# Altium integrated library Linear Technology PMIC-Switching Reg LTC1174-LTC3901.IntLib: 2647 symbols (part 152 of 310)
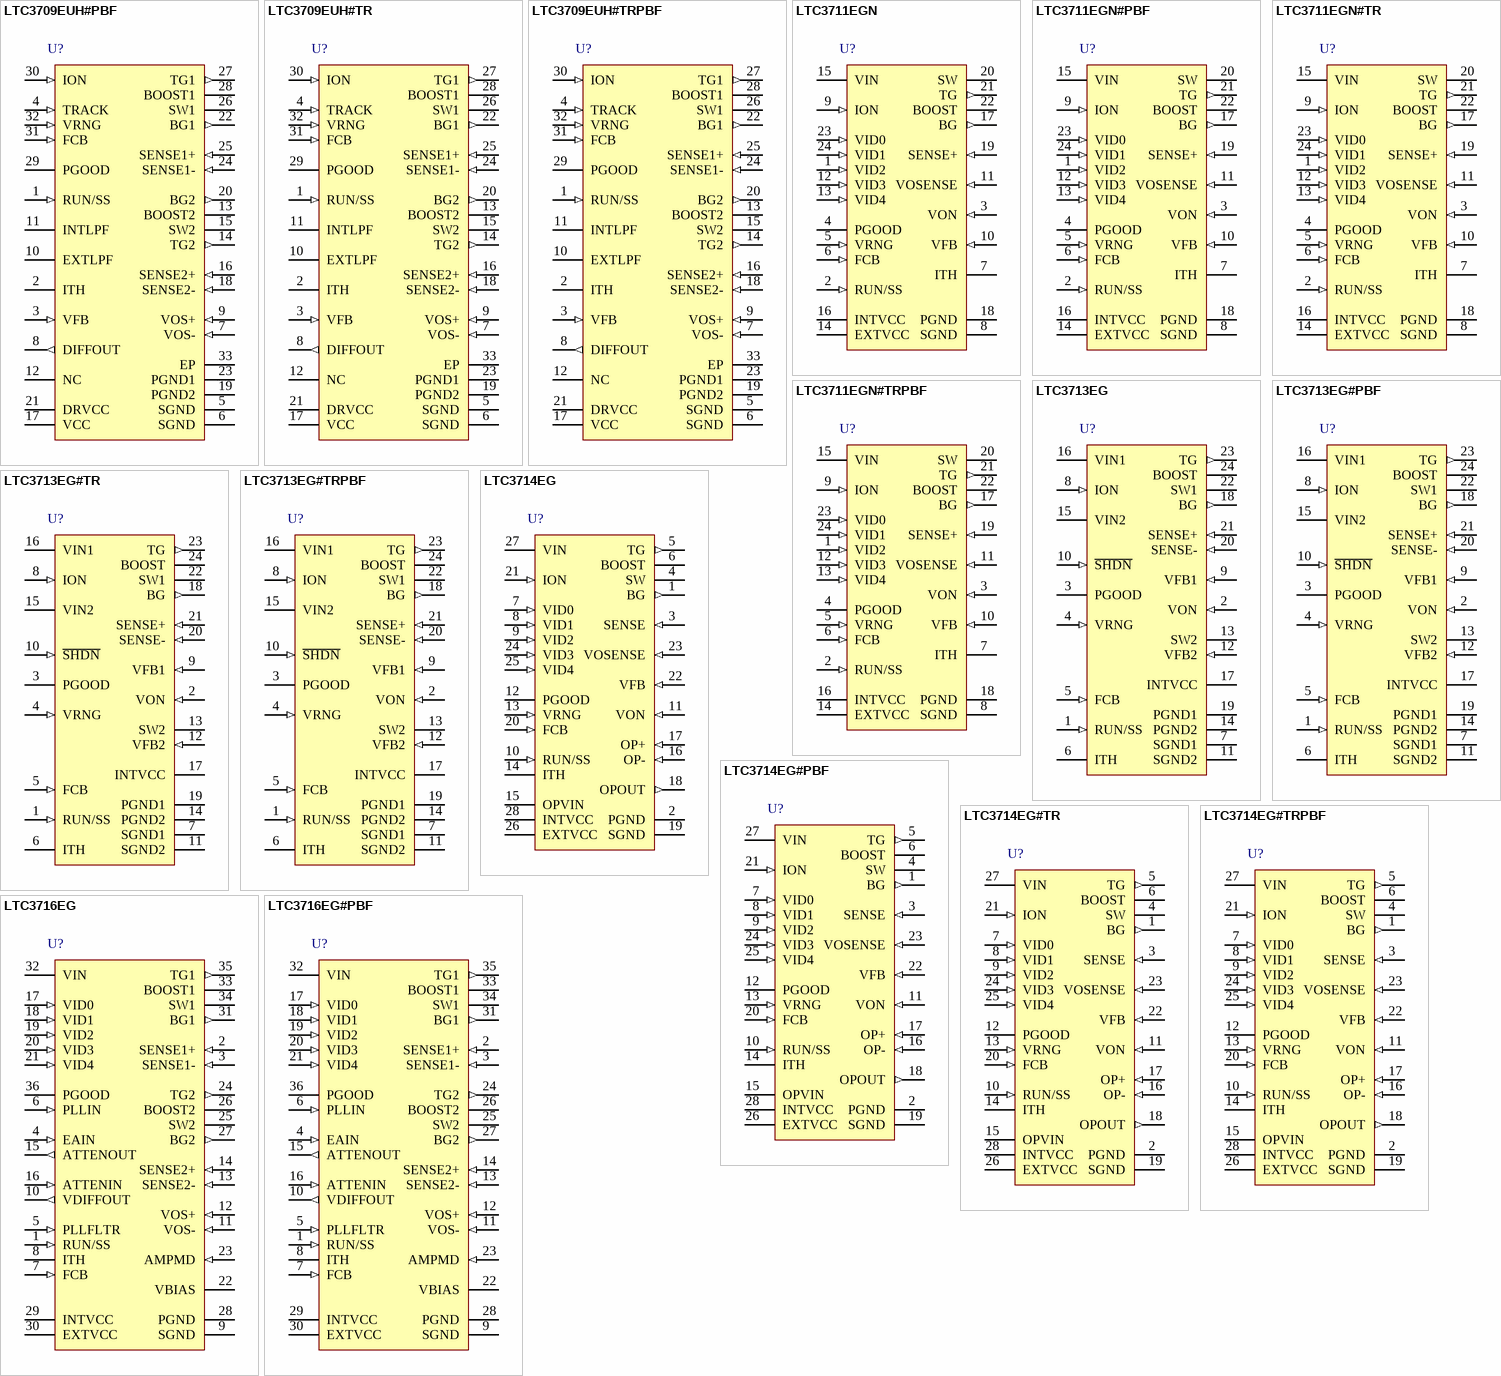
[diagram p301: symbols LTC3709EUH#PBF to LTC3716EG#PBF]

## LTC3709EUH#PBF
designator U?
Fast 2-Phase, No Rsense Synchronous DC/DC Controller with Tracking / Sequencing, 32-pin QFN (UH-32), -40 to 85 degC, Pb-Free; Manufacturer: Linear Technology; PartNumber: LTC3709EUH#PBF; Number of Outputs: 1; PackageReference: UH-32; PackageDescription: 32-Pin Plastic QFN, Body 5 x 5 mm, Pitch 0.5 mm; Supplier 1: Digi-Key; Supplier Part Number 1: LTC3709EUH#PBF-ND; RoHS: TRUE; Code_JEDEC: MO-220
footprint LT-UH-32_N (QFN, 32-Leads, Body 5.1x5.1mm, Pitch 0.5mm, Thermal Pad 3.45X3.45mm, IPC Medium Density)
footprint LT-UH-32_L (QFN, 32-Leads, Body 5.1x5.1mm, Pitch 0.5mm, Thermal Pad 3.45X3.45mm, IPC High Density)
footprint LT-UH-32_M (QFN, 32-Leads, Body 5.1x5.1mm, Pitch 0.5mm, Thermal Pad 3.45X3.45mm, IPC Low Density)
pins: 1 RUN/SS (in) "Run Control and Soft-Start Input. A capacitor to ground at this pin sets the ramp rate of the output voltage (approximately 0.5s/uF) and the time delay for overcurrent latch-off (see Applications Information). Forcing this (See Datasheet)", 2 ITH "Error Amplifier Compensation Point. The current comparator threshold increases with this control voltage. The voltage ranges from 0V to 2.4V with 0.8V corresponding to zero sense voltage (zero current).", 3 VFB (in) "Error Amplifier Feedback Input. This pin connects to the error amplifier input. It can be used to attach additional compensation components if desired.", 4 TRACK (in) "Tie the TRACK pin to a resistive divider connected to the output of another LTC3709 for either coincident or ratiometric output tracking (see Applications Information). To disable this feature, tie the pin to VCC. Do Not (See Datasheet)", 5 SGND (power) "Signal Ground. All small-signal components such as CSS and compensation components should connect to this ground and eventually connect to PGND at one point. The Exposed Pad of the QFN package must be soldered to PCB ground.", 6 SGND (power) "Signal Ground. All small-signal components such as CSS and compensation components should connect to this ground and eventually connect to PGND at one point. The Exposed Pad of the QFN package must be soldered to PCB ground.", 7 VOS- (in) "The (-) Input to the Differential Amplifer.", 8 DIFFOUT (out) "The Output of the Differential Amplifier.", 9 VOS+ (in) "The (+) Input to the Differential Amplifier.", 10 EXTLPF "Filter Connection for the PLL. This PLL is used to synchronize the LTC3709 with an external clock.", 11 INTLPF "Filter Connection for the PLL. This PLL is use to phase shift the second channel to the first channel by 180degrees.", 12 NC "No Connect.", 13 BOOST2 "Boosted Floating Driver Supply. The (+) terminal of the bootstrap capacitor CB connects here. This pin swings from a diode voltage drop below DRVCC up to VIN + DRVCC.", 14 TG2 (out) "Top Gate Drive. Drives the top N-channel MOSFET with a voltage swing equal to DRVCC superimposed on the switch node voltage SW.", 15 SW2 "Switch Node. The (-) terminal of the bootstrap capacitor CB connects here. This pin swings from a Schottky diode voltage drop below ground up to VIN.", 16 SENSE2+ (in) "Current Sense Comparator Input. The (+) input to the current comparator is normally connected to the SW node unless using a sense resistor (see Applications Information).", 17 VCC (power) "Main Input Supply. Decouple this pin to SGND with an RC filter (1ohm, 0.1uF).", 18 SENSE2- (in) "Current Sense Comparator Input. The (-) input to the current comparator is used to accurately Kelvin sense the bottom side of the sense resistor or MOSFET.", 19 PGND2 (power) "Power Ground. Connect this pin closely to the source of the bottom Nchannel MOSFET, the (-) terminal of CDRVCC and the (-) terminal of CIN.", 20 BG2 (out) "Bottom Gate Drive. Drives the gate of the bottom N-channel MOSFET between ground and DRVCC.", 21 DRVCC (power) "Driver Supply. Provides supply to the driver for the bottom gate. Also used for charging the bootstrap capacitor.", 22 BG1 (out) "Bottom Gate Drive. Drives the gate of the bottom N-channel MOSFET between ground and DRVCC.", 23 PGND1 (power) "Power Ground. Connect this pin closely to the source of the bottom Nchannel MOSFET, the (-) terminal of CDRVCC and the (-) terminal of CIN.", 24 SENSE1- (in) "Current Sense Comparator Input. The (-) input to the current comparator is used to accurately Kelvin sense the bottom side of the sense resistor or MOSFET.", 25 SENSE1+ (in) "Current Sense Comparator Input. The (+) input to the current comparator is normally connected to the SW node unless using a sense resistor (see Applications Information).", 26 SW1 "Switch Node. The (-) terminal of the bootstrap capacitor CB connects here. This pin swings from a Schottky diode voltage drop below ground up to VIN.", 27 TG1 (out) "Top Gate Drive. Drives the top N-channel MOSFET with a voltage swing equal to DRVCC superimposed on the switch node voltage SW.", 28 BOOST1 "Boosted Floating Driver Supply. The (+) terminal of the bootstrap capacitor CB connects here. This pin swings from a diode voltage drop below DRVCC up to VIN + DRVCC.", 29 PGOOD (oc) "Power Good Output. Open-drain logic output that is pulled to ground when output voltage is not within +/-10% of the regulation point. The output voltage must be out of regulation for at least 100us before the power good (See Datasheet)", 30 ION (in) "On-Time Current Input. Tie a resistor from VIN to this pin to set the one-shot timer current and thereby set the switching frequency.", 31 FCB (in) "Forced Continuous and External Clock Input. Tie this pin to ground to force continuous synchronous operation or to VCC to enable discontinuous mode operation at light load. Feeding an external clock signal into this pin will (See Datasheet)", 32 VRNG (in) "Sense Voltage Range Input. The voltage at this pin is ten times the nominal sense voltage at maximum output current and can be programmed from 0.5V to 2V. The sense voltage defaults to 70mV when this pin is tied to ground, (See Datasheet)", 33 EP (power) "Signal Ground. All small-signal components such as CSS and compensation components should connect to this ground and eventually connect to PGND at one point. The Exposed Pad of the QFN package must be soldered to PCB ground."